# Altium footprint library pulser.PcbLib: 19 footprints (part 1 of 2)
Each footprint in its own frame and in the unit in brackets; x right, y up, seen from the top. Pads: shape width x height; smd on the part's side, far side on the other; paste and mask are expansions set on the pad; w line width, h text height; cw(c..) or ccw(c..) is an arc to the next point about the centre after c.
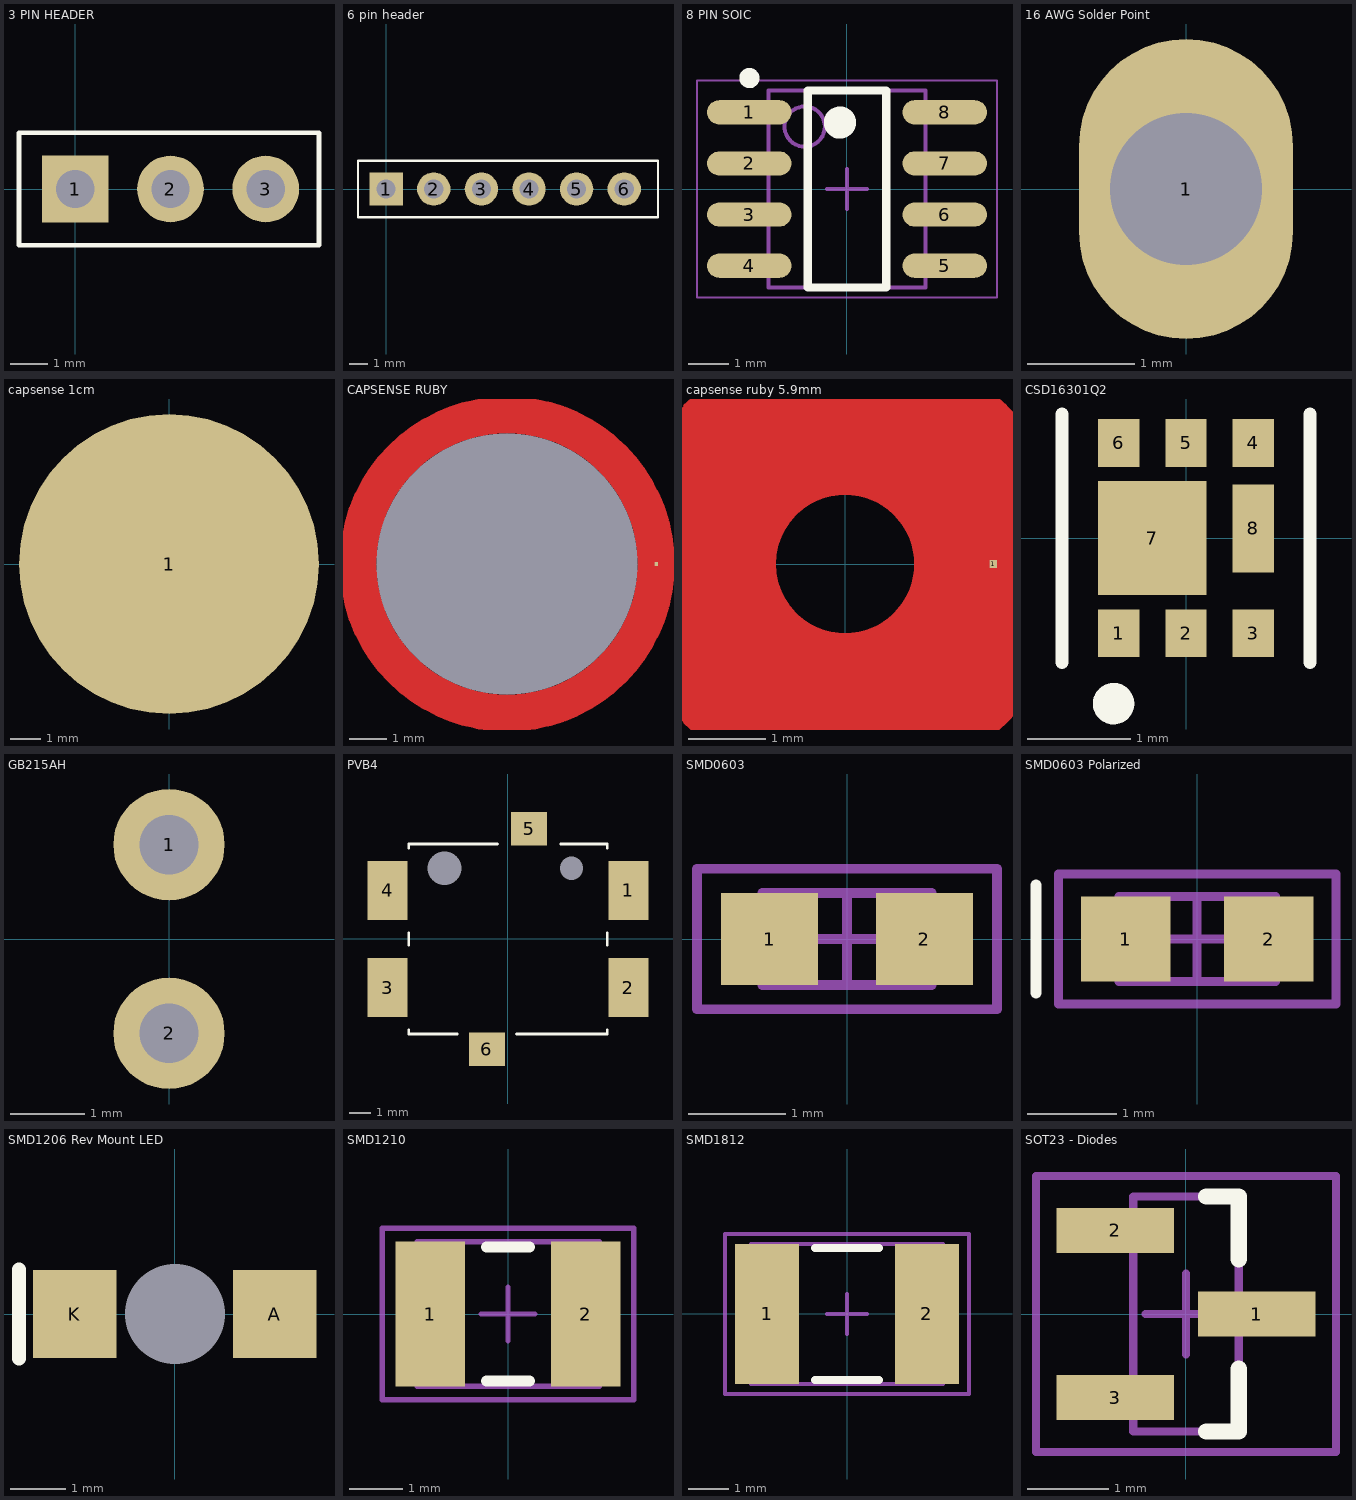
[diagram p0: the footprints below, top view; thin cyan lines are the x and y axes]

## 3 PIN HEADER [mil] "3 PIN 0.1\" header"
pads (3):
  rect 70x70 hole 40: 1(0,0)
  round 70 hole 40: 2(100,0) 3(200,0)
Top Overlay:
  lines w5: -59.06,-59.06 255.91,-59.06 255.91,59.06 -59.06,59.06 -59.06,-59.06

## 6 pin header [mil] "6 pin 0.1\" header"
pads (6):
  rect 70x70 hole 40: 1(0,0)
  round 70 hole 40: 2(100,0) 3(200,0) 4(300,0) 5(400,0) 6(500,0)
Top Overlay:
  lines w5: -59.06,-59.06 -59.06,59.06 570.87,59.06 570.87,-59.06 -59.06,-59.06

## 8 PIN SOIC [mm] "SOIC, 8-Leads"
height 1.75
pads (8):
  oval 2.1x0.6 smd: 1(-2.425,1.905) 2(-2.425,0.635) 3(-2.425,-0.635) 4(-2.425,-1.905) 5(2.425,-1.905) 6(2.425,-0.635) 7(2.425,0.635) 8(2.425,1.905)
Top Overlay:
  circle w0.25: c-2.425,2.755 r0.125
  circle w0.4: c-0.175,1.65 r0.2
  lines w0.2: -0.975,-2.45 -0.975,2.45 0.975,2.45 0.975,-2.45 -0.975,-2.45
Mechanical 13:
  circle w0.1: c-1.05,1.55 r0.5
  lines w0.1: -1.95,-2.45 -1.95,2.45 1.95,2.45 1.95,-2.45 -1.95,-2.45
Mechanical 15:
  lines w0.05: -3.725,-2.7 -3.725,2.7 3.725,2.7 3.725,-2.7 -3.725,-2.7
  lines w0.1: -0.5,0 0.5,0 ; 0,-0.5 0,0.5
3D body: height 1.75, standoff 0.25, extent -1.95,-2.45 1.95,2.45

## 16 AWG Solder Point [mm] "Solder Point for 16 AWG Wire"
pads (1):
  oval 2x2.8 hole 1.42: 1(0,0)

## capsense 1cm [mm] "1cm diameter capsense pad"
pads (1):
  round 10 smd: 1(0,0)

## CAPSENSE RUBY [mm] "Hole for cabsense ruby"
pads (2):
  round 0 hole 7 unplated: 0(0,0)
  rect 0.1x0.1 smd: 1(4,0)
Top Layer:
  circle w1: c0,0 r4
Top Solder:
  circle w1: c0,0 r4

## capsense ruby 5.9mm [mm] "Capsense pad designed for use with ruby and rev mount LED"
pads (1):
  rect 0.1x0.1 smd: 1(1.925,0)
Top Layer:
  circle w2.05: c0,0 r1.925
Top Solder:
  circle w2.05: c0,0 r1.925

## CSD16301Q2 [mm] "N ch MOSFET"
pads (8):
  rect 0.4x0.46 smd mask+0: 1(-0.65,-0.92) 2(0,-0.92) 3(0.65,-0.92) 4(0.65,0.92) 5(0,0.92) 6(-0.65,0.92)
  rect 1.05x1.1 smd mask+0: 7(-0.325,0)
  rect 0.4x0.85 smd mask+0: 8(0.65,0.095)
Top Overlay:
  circle w0.2: c-0.7,-1.6 r0.1
  lines w0.127: -1.2,-1.2 -1.2,1.2 ; 1.2,-1.2 1.2,1.2
3D body: height 0.8, standoff 0.05, extent -1,-1 1,1

## GB215AH [mm] "Through Hole Momentary Switch"
pads (2):
  round 1.5 hole 0.8: 1(0,1.27) 2(0,-1.27)
3D body: height 7, standoff 0, extent -1.25,-3.5 1.25,3.5
3D body: height 10.2, standoff 7, extent -1.1,1.1 1,3.3

## PVB4 [mm] "PVB4 Switch"
pads (8):
  rect 0x0 hole 1.6 unplated: 0(-3,3.35)
  rect 0x0 hole 1.1 unplated: 0(3,3.35)
  rect 1.9x2.8 smd: 1(5.7,2.3) 2(5.7,-2.3) 3(-5.7,-2.3) 4(-5.7,2.3)
  rect 1.7x1.575 smd: 5(1,5.212) 6(-1,-5.212)
Top Overlay:
  lines w0.127: -4.7,-4.3 -4.7,-4.5 -2.4,-4.5 ; -4.7,-0.3 -4.7,0.3 ; -4.7,4.3 -4.7,4.5 -0.5,4.5 ; 0.4,-4.5 4.7,-4.5 4.7,-4.3 ; 2.5,4.5 4.7,4.5 4.7,4.3 ; 4.7,-0.3 4.7,0.3

## SMD0603 [mm] "0603 Surface Mount Chip"
height 0.6
pads (2):
  rect 1x0.95 smd: 1(-0.8,0) 2(0.8,0)
Mechanical 13:
  lines w0.1: -0.875,-0.475 -0.875,0.475 0.875,0.475 0.875,-0.475 -0.875,-0.475
Mechanical 15:
  lines w0.1: -0.475,0 0.475,0 ; 0,-0.475 0,0.475 ; -1.55,-0.725 -1.55,0.725 1.55,0.725 1.55,-0.725 -1.55,-0.725
3D body: height 0.6, standoff 0, extent -0.875,-0.475 0.875,0.475

## SMD0603 Polarized [mm] "0603 Surface Mount Chip"
height 0.6
pads (2):
  rect 1x0.95 smd: 1(-0.8,0) 2(0.8,0)
Top Overlay:
  lines w0.127: -1.8,-0.6 -1.8,0.6
Mechanical 13:
  lines w0.1: -0.875,-0.475 -0.875,0.475 0.875,0.475 0.875,-0.475 -0.875,-0.475
Mechanical 15:
  lines w0.1: -0.475,0 0.475,0 ; 0,-0.475 0,0.475 ; -1.55,-0.725 -1.55,0.725 1.55,0.725 1.55,-0.725 -1.55,-0.725
3D body: height 0.6, standoff 0, extent -0.875,-0.475 0.875,0.475

## SMD1206 Rev Mount LED [mm] "1206 Reverse mount LED, 1.8mm hole"
pads (3):
  round 0 hole 1.8 unplated: 0(0,0)
  rect 1.5x1.59 smd: A(1.795,0) K(-1.795,0)
Top Overlay:
  lines w0.254: -2.8,-0.8 -2.8,0.8

## SMD1210 [mm] "Chip Capacitor, 2-Leads, Body 3.2x2.5mm, IPC Medium Density"
height 2.05
pads (2):
  rect 1.3x2.7 smd: 1(-1.45,0) 2(1.45,0)
Top Overlay:
  lines w0.2: -0.4,-1.25 0.4,-1.25 ; -0.4,1.25 0.4,1.25
Mechanical 13:
  lines w0.1: -1.7,-1.35 1.7,-1.35 1.7,1.35 -1.7,1.35 -1.7,-1.35
Mechanical 15:
  lines w0.1: -0.5,0 0.5,0 ; 0,-0.5 0,0.5 ; -2.35,-1.6 2.35,-1.6 2.35,1.6 -2.35,1.6 -2.35,-1.6
3D body: height 2.05, standoff 0, extent -1.7,-1.35 1.7,1.35

## SMD1812 [mm] "Chip Capacitor, 2-Leads, Body 4.5x3.2mm, IPC Medium Density"
height 2
pads (2):
  rect 1.6x3.5 smd: 1(-2,0) 2(2,0)
Top Overlay:
  lines w0.2: -0.8,-1.65 0.8,-1.65 ; -0.8,1.65 0.8,1.65
Mechanical 13:
  lines w0.1: -2.4,-1.75 -2.4,1.75 2.4,1.75 2.4,-1.75 -2.4,-1.75
Mechanical 15:
  lines w0.1: -0.5,0 0.5,0 ; 0,-0.5 0,0.5 ; -3.05,-2 -3.05,2 3.05,2 3.05,-2 -3.05,-2
3D body: height 2, standoff 0, extent -2.4,-1.75 2.4,1.75

## SOT23 - Diodes [mm] "Special SOT23 design for Diodes Part"
height 1.05
pads (3):
  rect 1.45x0.55 smd: 1(0.875,0) 2(-0.875,1.03) 3(-0.875,-1.03)
Top Overlay:
  lines w0.2: 0.25,-1.45 0.65,-1.45 0.65,-0.675 ; 0.25,1.45 0.65,1.45 0.65,0.675
Mechanical 13:
  lines w0.1: -0.65,-1.45 -0.65,1.45 0.65,1.45 0.65,-1.45 -0.65,-1.45
Mechanical 15:
  lines w0.1: -0.5,0 0.5,0 ; 0,-0.5 0,0.5 ; -1.85,-1.7 -1.85,1.7 1.85,1.7 1.85,-1.7 -1.85,-1.7
3D body: height 1.05, standoff 0.05, extent -0.65,-1.45 0.65,1.45